# Altium schematic symbol library OPB609GU.SchLib: 1 symbol
Pins are listed as number, name and electrical type; pins without a type are passive.

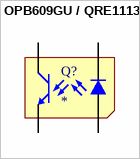
[diagram p0: symbol OPB609GU / QRE1113]

## OPB609GU / QRE1113
designator Q?
Reflective Opto Sensor; Manufacturer: Optek / Fairchild; Part No.: OPB609GU / QRE1113GR; Vendor: Mouser; Price Est.: $0.85
footprint OPB609GU (Optek OPB609GU (Compatible with Fairchild QRE1113GR))
pins: 1, 2, 3, 4